# Altium footprint library ic_so.PcbLib: 15 footprints
Each footprint in its own frame and in the unit in brackets; x right, y up, seen from the top. Pads: shape width x height; smd on the part's side, far side on the other; paste and mask are expansions set on the pad; w line width, h text height; cw(c..) or ccw(c..) is an arc to the next point about the centre after c.
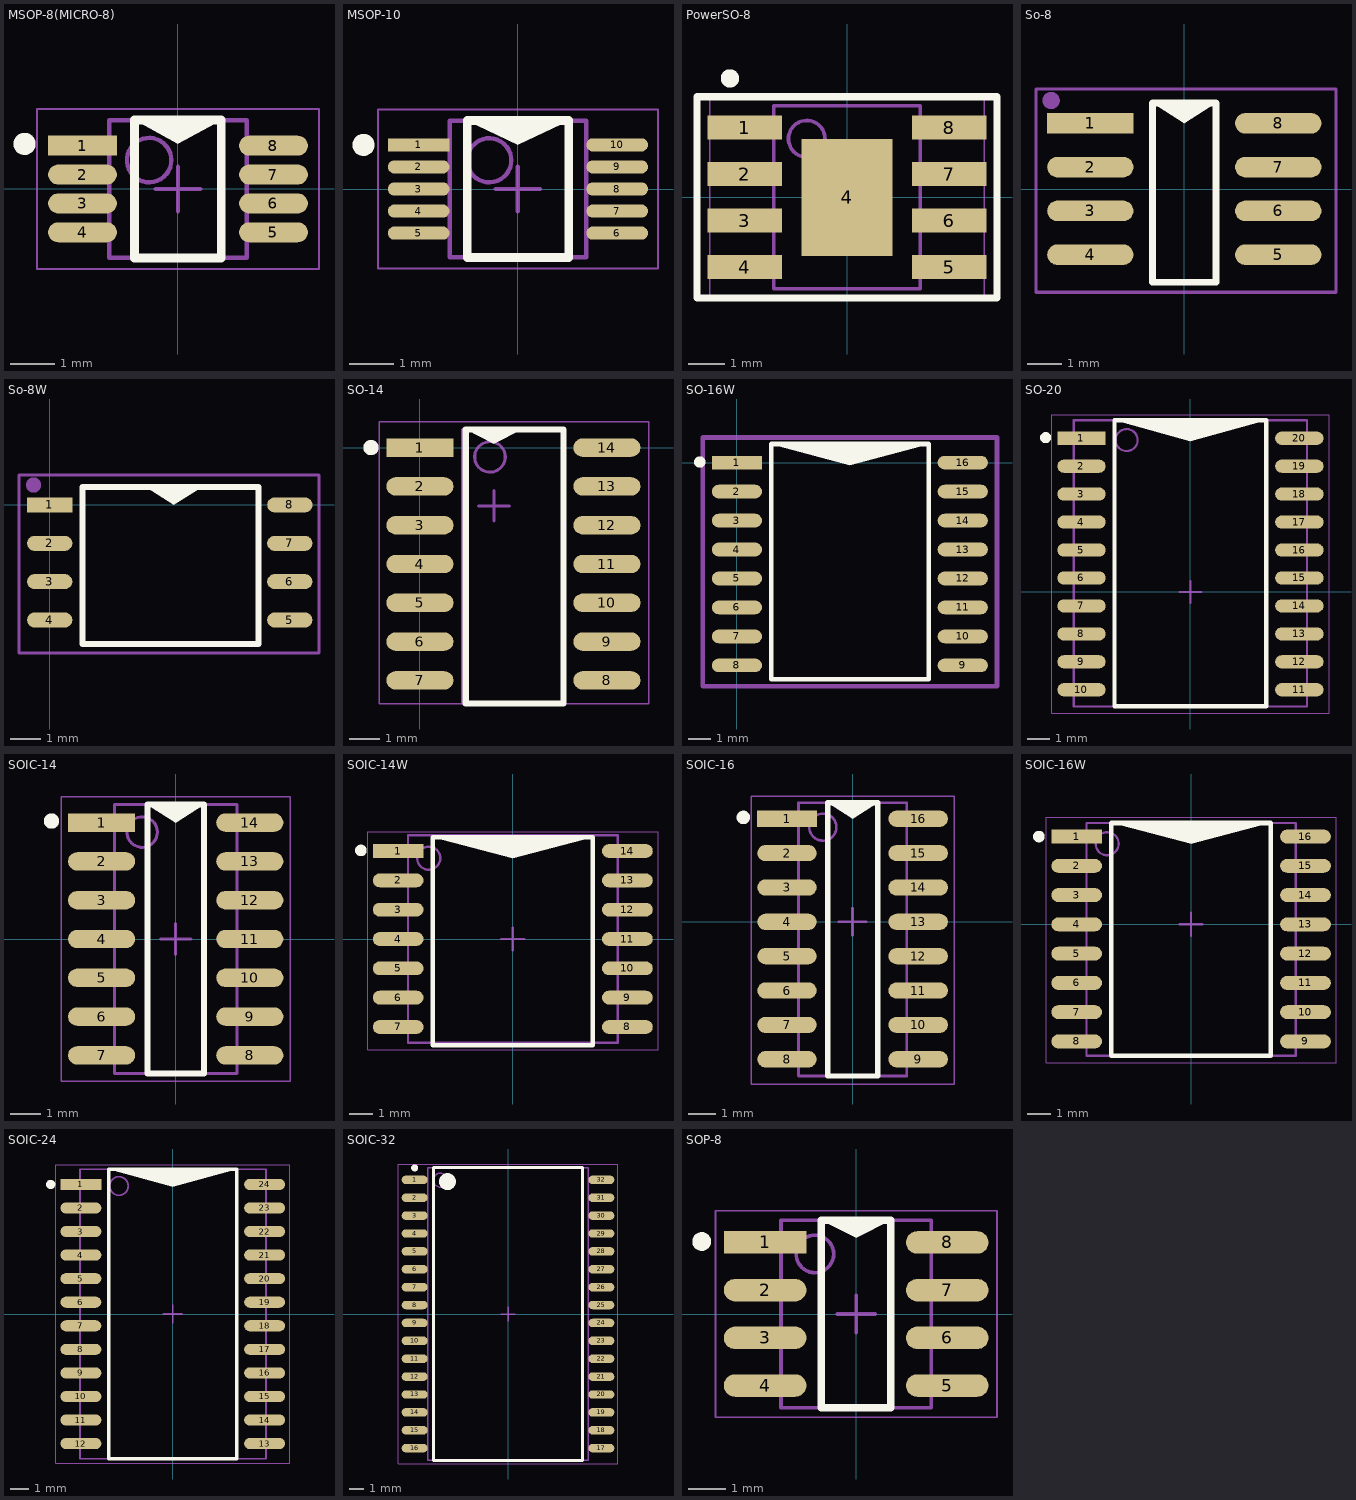
[diagram p0: the footprints below, top view; thin cyan lines are the x and y axes]

## MSOP-8(MICRO-8) [mm] "TSOP, 8-Leads, Body 3,00x3,00mm, Pitch 0,65mm, IPC Medium Density"
height 1.11
pads (8):
  rect 1.55x0.45 smd: 1(-2.15,0.975)
  oval 1.55x0.45 smd: 2(-2.15,0.325) 3(-2.15,-0.325) 4(-2.15,-0.975) 5(2.15,-0.975) 6(2.15,-0.325) 7(2.15,0.325) 8(2.15,0.975)
Top Overlay:
  circle w0.25: c-3.455,1.016 r0.125
  region: -0.965,1.55 0.975,1.55 0,1.016
  lines w0.2: -0.975,-1.55 0.975,-1.55 0.975,1.55 -0.975,1.55 -0.975,-1.55
Mechanical 13:
  circle w0.1: c-0.65,0.65 r0.5
  lines w0.1: -1.55,-1.55 1.55,-1.55 1.55,1.55 -1.55,1.55 -1.55,-1.55
Mechanical 15:
  lines w0.05: -3.175,-1.8 3.175,-1.8 3.175,1.8 -3.175,1.8 -3.175,-1.8
  lines w0.1: -0.5,0 0.5,0 ; 0,-0.5 0,0.5
3D body "MSOP-8-1.step": height 0.92, standoff 0, extent -2.5,-1.5 2.5,1.5

## MSOP-10 [mm]
height 1.1
pads (10):
  rect 1.4x0.3 smd: 1(-2.25,1)
  oval 1.4x0.3 smd: 2(-2.25,0.5) 3(-2.25,0) 4(-2.25,-0.5) 5(-2.25,-1) 6(2.25,-1) 7(2.25,-0.5) 8(2.25,0) 9(2.25,0.5) 10(2.25,1)
Top Overlay:
  circle w0.25: c-3.5,1 r0.125
  region: -1.15,1.55 1.15,1.55 0,1
  lines w0.2: -1.15,-1.55 -1.15,1.55 1.15,1.55 1.15,-1.55 -1.15,-1.55
Mechanical 13:
  circle w0.1: c-0.65,0.65 r0.5
  lines w0.1: -1.55,-1.55 -1.55,1.55 1.55,1.55 1.55,-1.55 -1.55,-1.55
Mechanical 15:
  lines w0.05: -3.175,-1.8 -3.175,1.8 3.175,1.8 3.175,-1.8 -3.175,-1.8
  lines w0.1: -0.5,0 0.5,0 ; 0,-0.5 0,0.5
3D body "User Library-MSOP-10-1.STEP": height 1.03, standoff -0.02, extent -2.514,-1.5 2.514,1.5

## PowerSO-8 [mil] "SOP, 8-Leads, Body 4,90x3,90mm, Pitch 1,27mm, IPC Medium Density"
height 68.9
pads (9):
  rect 80x26 smd: 1(-110,75) 2(-110,25) 3(-110,-25) 4(-110,-75) 5(110,-75) 6(110,-25) 7(110,25) 8(110,75)
  rect 98.43x125.98 smd: 4(0,0)
Top Overlay:
  circle w9.84: c-125.98,127.95 r4.92
  lines w7.87: -161.42,-108.27 161.42,-108.27 161.42,108.27 -161.42,108.27 -161.42,-108.27
Mechanical 13:
  circle w3.94: c-43.31,62.99 r19.68
  lines w3.94: -78.74,-98.43 78.74,-98.43 78.74,98.43 -78.74,98.43 -78.74,-98.43
Mechanical 15:
  lines w1.97: -147.64,-108.27 147.64,-108.27 147.64,108.27 -147.64,108.27 -147.64,-108.27
  lines w3.94: -19.68,0 19.69,0 ; -18.87,-0.39 20.5,-0.39 ; 0,-19.68 0,19.68 ; 0.82,-20.08 0.82,19.29
3D body "SOP-8.step": height 62.99, standoff 0, extent -118.11,-98.43 119.76,99.21

## So-8 [mm]
height 2
pads (8):
  rect 2.5x0.6 smd: 1(-2.725,1.905)
  oval 2.5x0.6 smd: 2(-2.725,0.635) 3(-2.725,-0.635) 4(-2.725,-1.905) 5(2.725,-1.905) 6(2.725,-0.635) 7(2.725,0.635) 8(2.725,1.905)
Top Overlay:
  region: -0.925,2.495 0.925,2.495 0,1.905
  lines w0.2: -0.925,-2.705 0.925,-2.705 0.925,2.495 -0.925,2.495 -0.925,-2.705
Mechanical 29:
  circle w0.25: c-3.861,2.565 r0.125
  lines w0.1: -4.3,-3 -4.3,2.9 4.4,2.9 4.4,-3 -4.3,-3
  text ".Designator" at -2.5,-0.4 h1.5
3D body "SO-8.step": height 1.45, standoff 0, extent -2.765,-2.421 3.013,2.481

## So-8W [mm] "208mils"
height 2
pads (8):
  rect 1.5x0.5 smd: 1(0,0)
  oval 1.5x0.5 smd: 2(0,-1.27) 3(0,-2.54) 4(0,-3.81) 5(7.95,-3.81) 6(7.95,-2.54) 7(7.95,-1.27) 8(7.95,0)
Top Overlay:
  region: 3.19,0.59 5.04,0.59 4.115,0
  lines w0.2: 1.092,-4.61 1.092,0.59 6.909,0.59 6.909,-4.61 1.092,-4.61
Mechanical 29:
  circle w0.25: c-0.533,0.66 r0.125
  lines w0.1: -1.016,-4.905 8.915,-4.905 8.915,0.995 -1.016,0.995 -1.016,-4.905
  text ".Designator" at 0.225,-2.305 h1.5
3D body "SO-8W.STEP": height 1.95, standoff 0, extent 0.045,-4.538 7.945,0.762

## SO-14 [mm]
pads (14):
  rect 2.2x0.6 smd: 1(0,0)
  oval 2.2x0.6 smd: 2(0,-1.27) 3(0,-2.54) 4(0,-3.81) 5(0,-5.08) 6(0,-6.35) 7(0,-7.62) 8(6.12,-7.62) 9(6.12,-6.35) 10(6.12,-5.08) 11(6.12,-3.81) 12(6.12,-2.54) 13(6.12,-1.27) 14(6.12,0)
Top Overlay:
  circle w0.25: c-1.601,0 r0.125
  region: 1.5,0.595 3.35,0.595 2.425,0.127
  lines w0.2: 1.5,-8.382 4.699,-8.382 4.699,0.595 1.5,0.595 1.5,-8.382
Mechanical 13:
  circle w0.1: c2.294,-0.305 r0.5
  lines w0.1: 1.397,-8.382 4.699,-8.382 4.699,0.595 1.397,0.595 1.397,-8.382
Mechanical 15:
  lines w0.05: -1.325,-8.382 7.493,-8.382 7.493,0.845 -1.325,0.845 -1.325,-8.382
  lines w0.1: 1.925,-1.905 2.925,-1.905 ; 2.425,-2.405 2.425,-1.405
3D body "SO-14-DEFAULT.STEP": height 1.75, standoff 0, extent 0,-8.128 6.096,0.508

## SO-16W [mm]
pads (16):
  rect 2.2x0.6 smd: 1(0,0)
  oval 2.2x0.6 smd: 2(0,-1.27) 3(0,-2.54) 4(0,-3.81) 5(0,-5.08) 6(0,-6.35) 7(0,-7.62) 8(0,-8.89) 9(9.9,-8.89) 10(9.9,-7.62) 11(9.9,-6.35) 12(9.9,-5.08) 13(9.9,-3.81) 14(9.9,-2.54) 15(9.9,-1.27) 16(9.9,0)
Top Overlay:
  circle w0.25: c-1.626,0.025 r0.125
  region: 1.5,0.815 8.4,0.815 4.95,-0.127
  lines w0.2: 1.5,-9.5 1.5,0.815 8.4,0.815 8.4,-9.5 1.5,-9.5
Mechanical 29:
  circle w0.25: c0.174,0.025 r0.125
  lines w0.2: -1.5,-9.8 11.4,-9.8 11.4,1.1 -1.5,1.1 -1.5,-9.8
  text ".Designator" at 1.473,-4.216 h1.5
3D body "SO-16.step": height 3.5, standoff 0, extent -0.175,-9.574 10.125,0.626

## SO-20 [mm] "SOIC, 24-Leads, Body 15,40x7,50mm, Pitch 1,27mm, IPC Medium Density"
height 2.65
pads (20):
  rect 2.2x0.6 smd: 1(-4.95,6.985)
  oval 2.2x0.6 smd: 2(-4.95,5.715) 3(-4.95,4.445) 4(-4.95,3.175) 5(-4.95,1.905) 6(-4.95,0.635) 7(-4.95,-0.635) 8(-4.95,-1.905) 9(-4.95,-3.175) 10(-4.95,-4.445) 11(4.95,-4.445) 12(4.95,-3.175) 13(4.95,-1.905) 14(4.95,-0.635) 15(4.95,0.635) 16(4.95,1.905) 17(4.95,3.175) 18(4.95,4.445) 19(4.95,5.715) 20(4.95,6.985)
Top Overlay:
  circle w0.25: c-6.579,7.01 r0.125
  region: -3.45,7.8 3.45,7.8 0,6.858
  lines w0.2: -3.45,-5.2 -3.45,7.8 3.45,7.8 3.45,-5.2 -3.45,-5.2
Mechanical 13:
  circle w0.1: c-2.9,6.9 r0.5
  lines w0.1: -5.3,-5.2 -5.3,7.8 5.3,7.8 5.3,-5.2 -5.3,-5.2
Mechanical 15:
  lines w0.05: -6.3,-5.5 -6.3,8.05 6.3,8.05 6.3,-5.5 -6.3,-5.5
  lines w0.1: -0.5,0 0.5,0 ; 0,-0.5 0,0.5
3D body "SO-20.step": height 2.66, standoff 0, extent -5.315,-5.23 5.315,7.77

## SOIC-14 [mm] "SOIC, 14-Leads, Body 8,65x3,90mm, Pitch 1,27mm, IPC Medium Density"
height 1.75
pads (14):
  rect 2.2x0.6 smd: 1(-2.425,3.81)
  oval 2.2x0.6 smd: 2(-2.425,2.54) 3(-2.425,1.27) 4(-2.425,0) 5(-2.425,-1.27) 6(-2.425,-2.54) 7(-2.425,-3.81) 8(2.425,-3.81) 9(2.425,-2.54) 10(2.425,-1.27) 11(2.425,0) 12(2.425,1.27) 13(2.425,2.54) 14(2.425,3.81)
Top Overlay:
  circle w0.25: c-4.064,3.861 r0.125
  region: -0.925,4.4 0.925,4.4 0,3.81
  lines w0.2: -0.925,-4.4 0.925,-4.4 0.925,4.4 -0.925,4.4 -0.925,-4.4
Mechanical 13:
  circle w0.1: c-1.1,3.5 r0.5
  lines w0.1: -2,-4.4 2,-4.4 2,4.4 -2,4.4 -2,-4.4
Mechanical 15:
  lines w0.05: -3.75,-4.65 3.75,-4.65 3.75,4.65 -3.75,4.65 -3.75,-4.65
  lines w0.1: -0.5,0 0.5,0 ; 0,-0.5 0,0.5
3D body "SOIC-14.step": height 1.55, standoff 0, extent -3,-4.325 3,4.325

## SOIC-14W [mm]
height 1.75
pads (14):
  rect 2.2x0.6 smd: 1(-4.965,3.81)
  oval 2.2x0.6 smd: 2(-4.965,2.54) 3(-4.965,1.27) 4(-4.965,0) 5(-4.965,-1.27) 6(-4.965,-2.54) 7(-4.965,-3.81) 8(4.965,-3.81) 9(4.965,-2.54) 10(4.965,-1.27) 11(4.965,0) 12(4.965,1.27) 13(4.965,2.54) 14(4.965,3.81)
Top Overlay:
  circle w0.25: c-6.579,3.835 r0.125
  region: -3.465,4.4 3.465,4.4 0,3.5
  lines w0.2: -3.465,-4.6 3.465,-4.6 3.465,4.4 -3.465,4.4 -3.465,-4.6
Mechanical 13:
  circle w0.1: c-3.64,3.5 r0.5
  lines w0.1: -4.54,-4.5 4.54,-4.5 4.54,4.5 -4.54,4.5 -4.54,-4.5
Mechanical 15:
  lines w0.05: -6.29,-4.8 6.29,-4.8 6.29,4.65 -6.29,4.65 -6.29,-4.8
  lines w0.1: -0.5,0 0.5,0 ; 0,-0.5 0,0.5
3D body "SOIC14WB.STEP": height 2.77, standoff 0.06, extent -5.25,-4.5 5.25,4.5

## SOIC-16 [mm]
height 1.75
pads (16):
  rect 2.2x0.6 smd: 1(-2.425,3.81)
  oval 2.2x0.6 smd: 2(-2.425,2.54) 3(-2.425,1.27) 4(-2.425,0) 5(-2.425,-1.27) 6(-2.425,-2.54) 7(-2.425,-3.81) 8(-2.425,-5.08) 9(2.425,-5.08) 10(2.425,-3.81) 11(2.425,-2.54) 12(2.425,-1.27) 13(2.425,0) 14(2.425,1.27) 15(2.425,2.54) 16(2.425,3.81)
Top Overlay:
  circle w0.25: c-4.039,3.861 r0.125
  region: -0.925,4.4 0.925,4.4 0,3.81
  lines w0.2: -0.925,-5.7 0.925,-5.7 0.925,4.4 -0.925,4.4 -0.925,-5.7
Mechanical 13:
  circle w0.1: c-1.1,3.5 r0.5
  lines w0.1: -2,-5.7 2,-5.7 2,4.4 -2,4.4 -2,-5.7
Mechanical 15:
  lines w0.05: -3.75,-6 3.75,-6 3.75,4.65 -3.75,4.65 -3.75,-6
  lines w0.1: -0.5,0 0.5,0 ; 0,-0.5 0,0.5
3D body "SOIC-16.step": height 1.75, standoff 0, extent -3.001,-5.649 2.999,4.351

## SOIC-16W [mm]
height 1.75
pads (16):
  rect 2.2x0.6 smd: 1(-4.965,3.81)
  oval 2.2x0.6 smd: 2(-4.965,2.54) 3(-4.965,1.27) 4(-4.965,0) 5(-4.965,-1.27) 6(-4.965,-2.54) 7(-4.965,-3.81) 8(-4.965,-5.08) 9(4.965,-5.08) 10(4.965,-3.81) 11(4.965,-2.54) 12(4.965,-1.27) 13(4.965,0) 14(4.965,1.27) 15(4.965,2.54) 16(4.965,3.81)
Top Overlay:
  circle w0.25: c-6.604,3.81 r0.125
  region: -3.465,4.4 3.465,4.4 0,3.5
  lines w0.2: -3.465,-5.7 3.465,-5.7 3.465,4.4 -3.465,4.4 -3.465,-5.7
Mechanical 13:
  circle w0.1: c-3.64,3.5 r0.5
  lines w0.1: -4.54,-5.7 4.54,-5.7 4.54,4.4 -4.54,4.4 -4.54,-5.7
Mechanical 15:
  lines w0.05: -6.29,-6 6.29,-6 6.29,4.65 -6.29,4.65 -6.29,-6
  lines w0.1: -0.5,0 0.5,0 ; 0,-0.5 0,0.5
3D body "SOIC16W.step": height 2.72, standoff 0.07, extent -5.316,-5.899 5.314,4.601

## SOIC-24 [mm] "SOIC, 24-Leads, Body 15,40x7,50mm, Pitch 1,27mm, IPC Medium Density"
height 2.65
pads (24):
  rect 2.2x0.6 smd: 1(-4.95,6.985)
  oval 2.2x0.6 smd: 2(-4.95,5.715) 3(-4.95,4.445) 4(-4.95,3.175) 5(-4.95,1.905) 6(-4.95,0.635) 7(-4.95,-0.635) 8(-4.95,-1.905) 9(-4.95,-3.175) 10(-4.95,-4.445) 11(-4.95,-5.715) 12(-4.95,-6.985) 13(4.95,-6.985) 14(4.95,-5.715) 15(4.95,-4.445) 16(4.95,-3.175) 17(4.95,-1.905) 18(4.95,-0.635) 19(4.95,0.635) 20(4.95,1.905) 21(4.95,3.175) 22(4.95,4.445) 23(4.95,5.715) 24(4.95,6.985)
Top Overlay:
  circle w0.25: c-6.579,6.985 r0.125
  region: -3.45,7.8 3.45,7.8 0,6.858
  lines w0.2: -3.45,-7.8 -3.45,7.8 3.45,7.8 3.45,-7.8 -3.45,-7.8
Mechanical 13:
  circle w0.1: c-2.9,6.9 r0.5
  lines w0.1: -5.004,-7.8 -5.004,7.8 5.029,7.8 5.029,-7.8 -5.004,-7.8
Mechanical 15:
  lines w0.05: -6.3,-8.05 -6.3,8.05 6.3,8.05 6.3,-8.05 -6.3,-8.05
  lines w0.1: -0.5,0 0.5,0 ; 0,-0.5 0,0.5
3D body "SO-24.step": height 2.77, standoff -0.04, extent -5,-7.8 5,7.8

## SOIC-32 [mm] "SOIC, 32-Leads, Body 20,45x11,30mm, Pitch 1,27mm, IPC Medium Density"
height 3
pads (32):
  oval 1.85x0.6 smd: 1(-6.625,9.525) 2(-6.625,8.255) 3(-6.625,6.985) 4(-6.625,5.715) 5(-6.625,4.445) 6(-6.625,3.175) 7(-6.625,1.905) 8(-6.625,0.635) 9(-6.625,-0.635) 10(-6.625,-1.905) 11(-6.625,-3.175) 12(-6.625,-4.445) 13(-6.625,-5.715) 14(-6.625,-6.985) 15(-6.625,-8.255) 16(-6.625,-9.525) 17(6.625,-9.525) 18(6.625,-8.255) 19(6.625,-6.985) 20(6.625,-5.715) 21(6.625,-4.445) 22(6.625,-3.175) 23(6.625,-1.905) 24(6.625,-0.635) 25(6.625,0.635) 26(6.625,1.905) 27(6.625,3.175) 28(6.625,4.445) 29(6.625,5.715) 30(6.625,6.985) 31(6.625,8.255) 32(6.625,9.525)
Top Overlay:
  circle w0.25: c-6.625,10.375 r0.125
  circle w0.6: c-4.3,9.4 r0.3
  lines w0.2: -5.3,-10.4 -5.3,10.4 5.3,10.4 5.3,-10.4 -5.3,-10.4
Mechanical 13:
  circle w0.1: c-4.8,9.5 r0.5
  lines w0.1: -5.7,-10.4 -5.7,10.4 5.7,10.4 5.7,-10.4 -5.7,-10.4
Mechanical 15:
  lines w0.05: -7.8,-10.65 -7.8,10.65 7.8,10.65 7.8,-10.65 -7.8,-10.65
  lines w0.1: -0.5,0 0.5,0 ; 0,-0.5 0,0.5
3D body "SOIC-32.STEP": height 3.14, standoff -0.01, extent -7.02,-10.256 6.88,10.244

## SOP-8 [mm] "SOP, 8-Leads, Body 4,90x3,90mm, Pitch 1,27mm, IPC Medium Density"
height 1.75
pads (8):
  rect 2.2x0.6 smd: 1(-2.425,1.905)
  oval 2.2x0.6 smd: 2(-2.425,0.635) 3(-2.425,-0.635) 4(-2.425,-1.905) 5(2.425,-1.905) 6(2.425,-0.635) 7(2.425,0.635) 8(2.425,1.905)
Top Overlay:
  circle w0.25: c-4.115,1.93 r0.125
  region: -0.925,2.5 0.925,2.5 0,2.032
  lines w0.2: -0.925,-2.5 0.925,-2.5 0.925,2.5 -0.925,2.5 -0.925,-2.5
Mechanical 13:
  circle w0.1: c-1.1,1.6 r0.5
  lines w0.1: -2,-2.5 2,-2.5 2,2.5 -2,2.5 -2,-2.5
Mechanical 15:
  lines w0.05: -3.75,-2.75 3.75,-2.75 3.75,2.75 -3.75,2.75 -3.75,-2.75
  lines w0.1: -0.5,0 0.5,0 ; 0,-0.5 0,0.5
3D body "SOP-8.step": height 1.6, standoff 0, extent -3,-2.5 3.042,2.52